# Altium schematic symbol library BF592.Schlib: 1 symbol
Pins are listed as number, name and electrical type; pins without a type are passive.

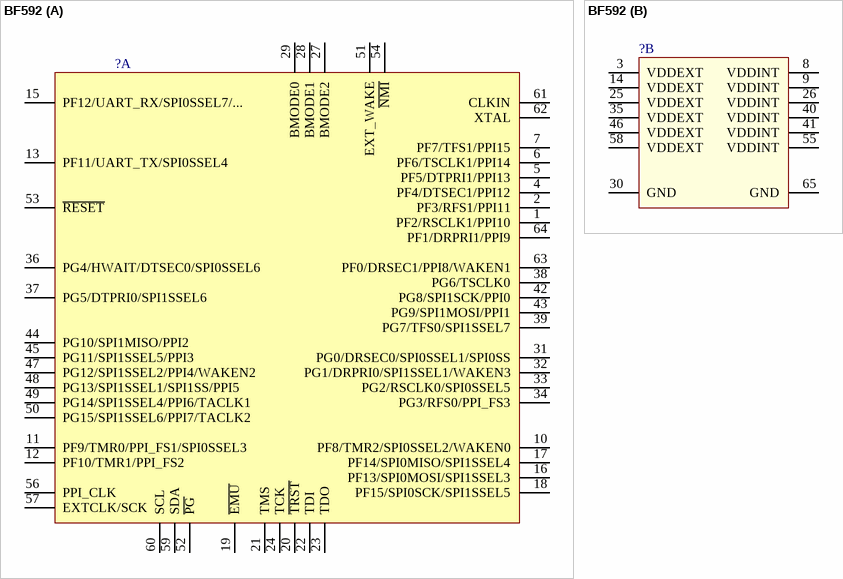
[diagram p0: symbol BF592]

## BF592
designator ?
part A pins: 1 PF2/RSCLK1/PPI10, 2 PF3/RFS1/PPI11, 4 PF4/DTSEC1/PPI12, 5 PF5/DTPRI1/PPI13, 6 PF6/TSCLK1/PPI14, 7 PF7/TFS1/PPI15, 10 PF8/TMR2/SPI0SSEL2/WAKEN0, 11 PF9/TMR0/PPI_FS1/SPI0SSEL3, 12 PF10/TMR1/PPI_FS2, 13 PF11/UART_TX/SPI0SSEL4, 15 PF12/UART_RX/SPI0SSEL7/..., 16 PF13/SPI0MOSI/SPI1SSEL3, 17 PF14/SPI0MISO/SPI1SSEL4, 18 PF15/SPI0SCK/SPI1SSEL5, 19 ~{EMU}, 20 ~{TRST}, 21 TMS, 22 TDI, 23 TDO, 24 TCK, 27 BMODE2, 28 BMODE1, 29 BMODE0, 31 PG0/DRSEC0/SPI0SSEL1/SPI0SS, 32 PG1/DRPRI0/SPI1SSEL1/WAKEN3, 33 PG2/RSCLK0/SPI0SSEL5, 34 PG3/RFS0/PPI_FS3, 36 PG4/HWAIT/DTSEC0/SPI0SSEL6, 37 PG5/DTPRI0/SPI1SSEL6, 38 PG6/TSCLK0, 39 PG7/TFS0/SPI1SSEL7, 42 PG8/SPI1SCK/PPI0, 43 PG9/SPI1MOSI/PPI1, 44 PG10/SPI1MISO/PPI2, 45 PG11/SPI1SSEL5/PPI3, 47 PG12/SPI1SSEL2/PPI4/WAKEN2, 48 PG13/SPI1SSEL1/SPI1SS/PPI5, 49 PG14/SPI1SSEL4/PPI6/TACLK1, 50 PG15/SPI1SSEL6/PPI7/TACLK2, 51 EXT_WAKE, 52 ~{PG}, 53 ~{RESET}, 54 ~{NMI}, 56 PPI_CLK, 57 EXTCLK/SCK, 59 SDA, 60 SCL, 61 CLKIN, 62 XTAL, 63 PF0/DRSEC1/PPI8/WAKEN1, 64 PF1/DRPRI1/PPI9
part B pins: 3 VDDEXT, 8 VDDINT, 9 VDDINT, 14 VDDEXT, 25 VDDEXT, 26 VDDINT, 30 GND, 35 VDDEXT, 40 VDDINT, 41 VDDINT, 46 VDDEXT, 55 VDDINT, 58 VDDEXT, 65 GND
1 alternate drawing of the same symbol